# EAGLE library part OPA4277UA (library faout)
High Precision OPERATIONAL AMPLIFIERS
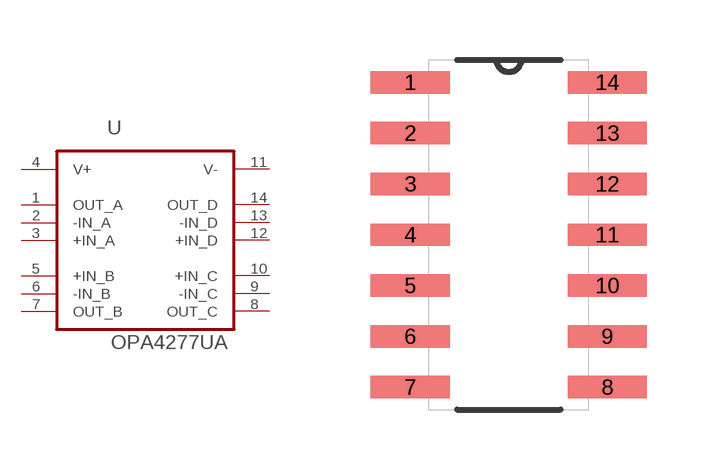
[diagram p13: symbol with the pads of SOIC127P600X175-14N; footprint SOIC127P600X175-14N]

Designator prefix U

## OPA4277UA (MPN: OPA4277UA; OC_FARNELL: 1097479; OC_NEWARK: 24C8771; PACKAGE: SOIC-14; SUPPLIER: Texas Instruments)  [SOIC127P600X175-14N]
1  OUT_A  out
2  -IN_A  in
3  +IN_A  in
4  V+  pwr
5  +IN_B  in
6  -IN_B  in
7  OUT_B  out
8  OUT_C  out
9  -IN_C  in
10  +IN_C  in
11  V-  pwr
12  +IN_D  in
13  -IN_D  in
14  OUT_D  out

## Footprint SOIC127P600X175-14N (pad centres in mm)
smd 1.981 x 0.559: 1 -2.464,3.81; 2 -2.464,2.54; 3 -2.464,1.27; 4 -2.464,0; 5 -2.464,-1.27; 6 -2.464,-2.54; 7 -2.464,-3.81; 8 2.464,-3.81; 9 2.464,-2.54; 10 2.464,-1.27; 11 2.464,0; 12 2.464,1.27; 13 2.464,2.54; 14 2.464,3.81